# EAGLE library part EEHZC1V271V (library EEHZC1V271V)
Panasonic 270F 35V dc Hybrid Conductive Polymer Aluminium Capacitor, Surface Mount 10 Dia. x 10.2mm +125C 10mm Source: Datasheet <http://industrial.panasonic.com/cdbs/www-data/pdf/RDD0000/ABA0000C1234.pdf>
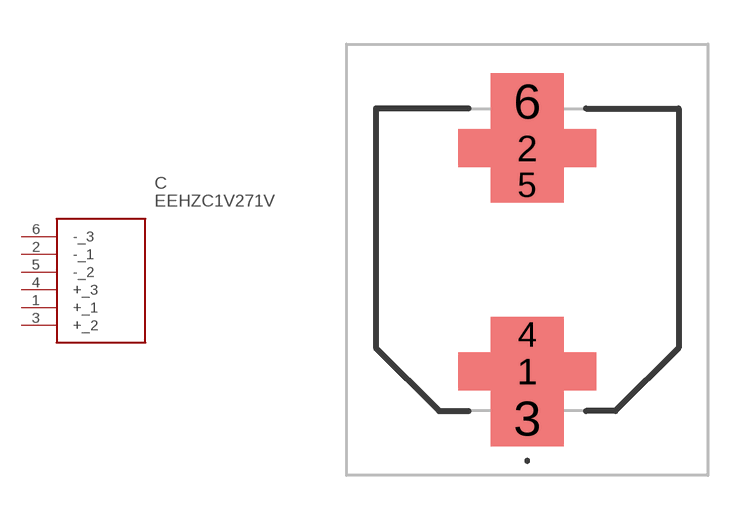
[diagram p0: symbol with the pads of Hybrid_G_VP; footprint Hybrid_G_VP]

Designator prefix C

## EEHZC1V271V (Description: Panasonic 270F 35V dc Hybrid Conductive Polymer Aluminium Capacitor, Surface Mount 10 Dia. x 10.2mm +125C 10mm; Height: mm; Manufacturer_Name: Panasonic; Manufacturer_Part_Number: EEHZC1V271V)  [Hybrid_G_VP]
1  +_1
2  -_1
3  +_2
4  +_3
5  -_2
6  -_3

## Footprint Hybrid_G_VP (pad centres in mm)
Hybrid_G_VP
smd 4.7 x 1.3: 1 0,-3.8; 2 0,3.8
smd 2.5 x 1.9: 3 0,-5.4; 6 0,5.4
smd 2.5 x 1.2: 4 0,-2.55; 5 0,2.55